# Altium footprint library CON2_Jumper_0.2mm.PcbLib: 1 footprints
Each footprint in its own frame and in the unit in brackets; x right, y up, seen from the top. Pads: shape width x height; smd on the part's side, far side on the other; paste and mask are expansions set on the pad; w line width, h text height; cw(c..) or ccw(c..) is an arc to the next point about the centre after c.
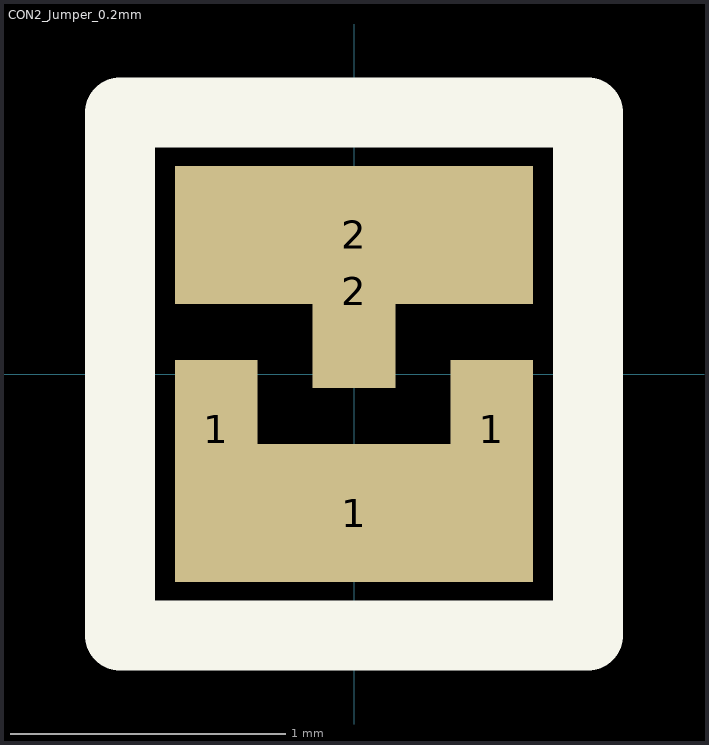
[diagram p0: the footprint, top view; thin cyan lines are the x and y axes]

## CON2_Jumper_0.2mm [mm]
pads (5):
  rect 0.3x0.5 smd paste-999 mask-999: 1(-0.5,-0.2) 1(0.5,-0.2)
  rect 1.3x0.5 smd paste-999 mask-999: 1(0,-0.505) 2(0,0.505)
  rect 0.3x0.7 smd paste-999 mask-999: 2(0,0.3)
Top Overlay:
  lines w0.254: -0.85,-0.95 -0.85,0.95 0.85,0.95 0.85,-0.95 -0.85,-0.95
Top Solder:
  rectangle: -0.7,-0.8 0.7,0.8